# EAGLE library part MCP1624 (library ds_ic_vreg)
500kHz 425mA Isw Synchronous PFM/PWM Boost Regulator
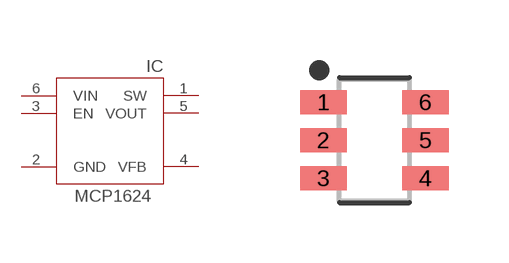
[diagram p13: symbol with the pads of SOT95P280X145-6N; footprint SOT95P280X145-6N]

Designator prefix IC

## MCP1624T-I/CHY  [SOT95P280X145-6N]
1  SW
2  GND
3  EN
4  VFB
5  VOUT
6  VIN

## Footprint SOT95P280X145-6N (pad centres in mm)
6-SOT23, 0.95 mm pitch, 2.80 mm span, 2.92 X 1.63 X 1.45 mm body 6-pin SOT23 package with 0.95 mm pitch, 2.80 mm span with body size 2.92 X 1.63 X 1.45 mm
smd 1.165 x 0.597: 1 -1.275,0.95; 2 -1.275,0; 3 -1.275,-0.95; 4 1.275,-0.95; 5 1.275,0; 6 1.275,0.95